# EAGLE library part AT24C02D-SSHM-T (library circuit_tree)
IC
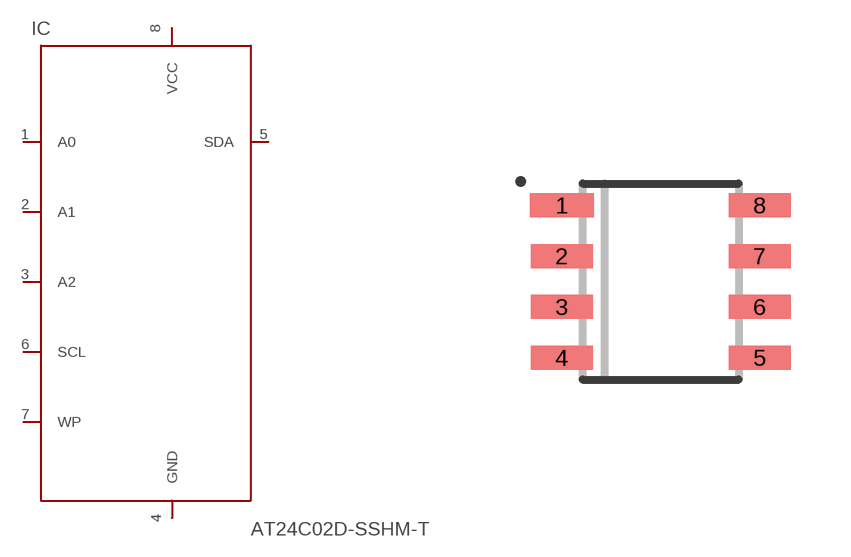
[diagram p2: symbol with the pads of AT24C02D; footprint AT24C02D]

Designator prefix IC

## AT24C02D-SSHM-T  [AT24C02D]
1  A0  pas
2  A1  pas
3  A2  pas
4  GND  pas
5  SDA  pas
6  SCL  pas
7  WP  pas
8  VCC  pas

## Footprint AT24C02D (pad centres in mm)
smd 1.6 x 0.6: 1 -2.475,1.905
smd 1.55 x 0.6: 2 -2.475,0.635; 3 -2.475,-0.635; 4 -2.475,-1.905; 5 2.475,-1.905; 6 2.475,-0.635; 7 2.475,0.635; 8 2.475,1.905